# Altium schematic symbol library ST.SchLib: 5 symbols
Pins are listed as number, name and electrical type; pins without a type are passive.

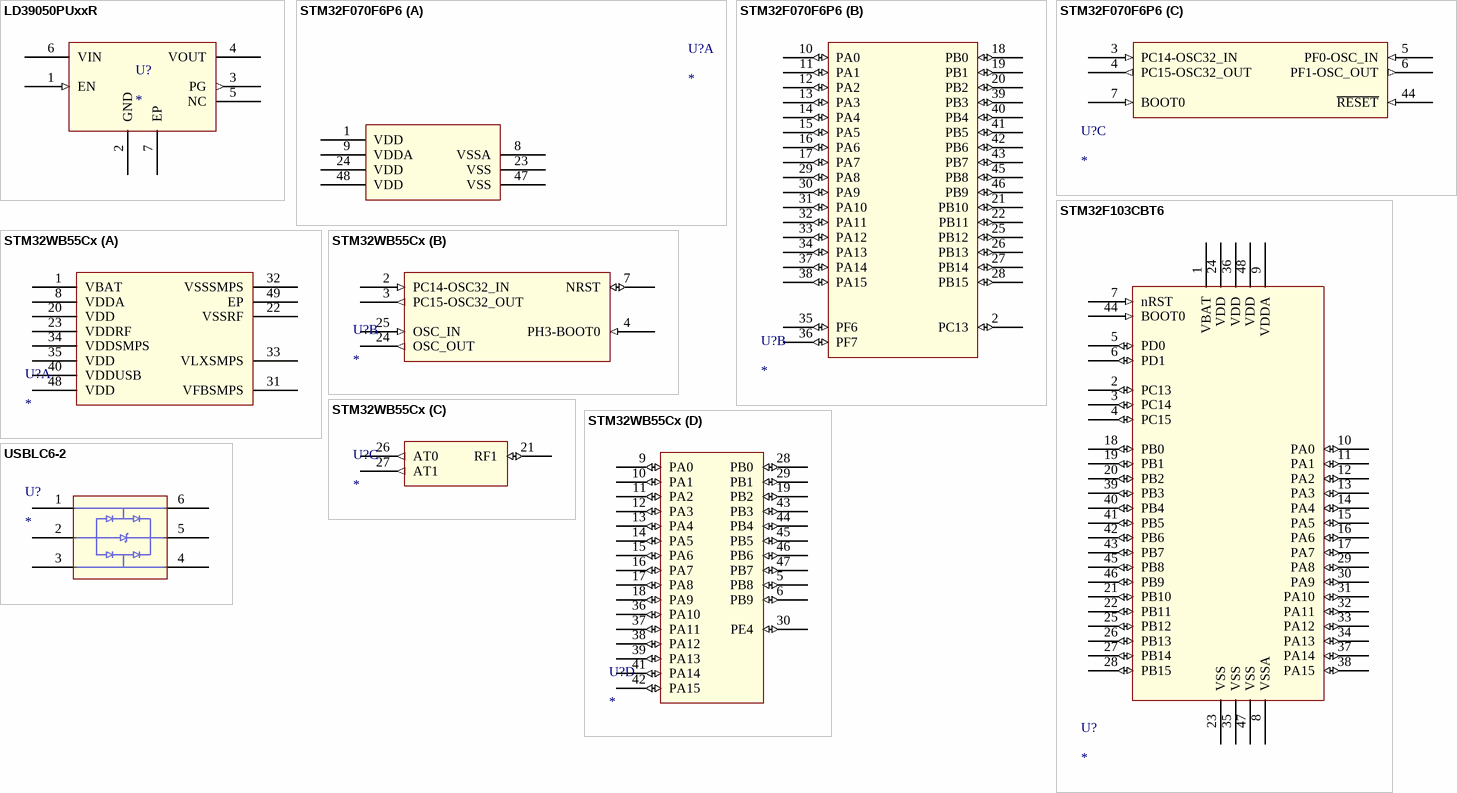
[diagram p0: symbols LD39050PUxxR to USBLC6-2]

## LD39050PUxxR
designator U?
500 mA low quiescent current and low noise voltage regulator
footprint SON6P95S300X300EP237x149 (SON, 6-Leads, Body 3.00x3.00mm, Pitch 0.95mm, Thermal Pad 2.37x1.49mm, IPC Medium Density)
pins: 1 EN (in), 2 GND (power), 3 PG (out), 4 VOUT (power), 5 NC, 6 VIN (power), 7 EP (power)

## STM32F070F6P6
designator U?
Value-line Arm®-based 32-bit MCU with up to 256 KB Flash, timers,ADC, communication interfaces, 2.4-3.6 V operation
footprint LQFP48P50S700X700X160 (TSQFP, 48-Leads, Body 7.00x7.00mm, Pitch 0.50mm, IPC Medium Density)
part A pins: 1 VDD (power), 8 VSSA (power), 9 VDDA (power), 23 VSS (power), 24 VDD (power), 47 VSS (power), 48 VDD (power)
part B pins: 2 PC13 (io), 10 PA0 (io), 11 PA1 (io), 12 PA2 (io), 13 PA3 (io), 14 PA4 (io), 15 PA5 (io), 16 PA6 (io), 17 PA7 (io), 18 PB0 (io), 19 PB1 (io), 20 PB2 (io), 21 PB10 (io), 22 PB11 (io), 25 PB12 (io), 26 PB13 (io), 27 PB14 (io), 28 PB15 (io), 29 PA8 (io), 30 PA9 (io), 31 PA10 (io), 32 PA11 (io), 33 PA12 (io), 34 PA13 (io), 35 PF6 (io), 36 PF7 (io), 37 PA14 (io), 38 PA15 (io), 39 PB3 (io), 40 PB4 (io), 41 PB5 (io), 42 PB6 (io), 43 PB7 (io), 45 PB8 (io), 46 PB9 (io)
part C pins: 3 PC14-OSC32_IN (in), 4 PC15-OSC32_OUT (out), 5 PF0-OSC_IN (in), 6 PF1-OSC_OUT (out), 7 BOOT0 (in), 44 ~{RESET} (in)

## STM32F103CBT6
designator U?
Medium-density performance line ARM®-based 32-bit MCU with 64 or 128 KB Flash, USB, CAN, 7 timers, 2 ADCs, 9 com. interfaces
footprint LQFP48P50S700X700X160 (TSQFP, 48-Leads, Body 7.00x7.00mm, Pitch 0.50mm, IPC Medium Density)
pins: 1 VBAT (power), 2 PC13 (io), 3 PC14 (io), 4 PC15 (io), 5 PD0 (io), 6 PD1 (io), 7 nRST (in), 8 VSSA (power), 9 VDDA (power), 10 PA0 (io), 11 PA1 (io), 12 PA2 (io), 13 PA3 (io), 14 PA4 (io), 15 PA5 (io), 16 PA6 (io), 17 PA7 (io), 18 PB0 (io), 19 PB1 (io), 20 PB2 (io), 21 PB10 (io), 22 PB11 (io), 23 VSS (power), 24 VDD (power), 25 PB12 (io), 26 PB13 (io), 27 PB14 (io), 28 PB15 (io), 29 PA8 (io), 30 PA9 (io), 31 PA10 (io), 32 PA11 (io), 33 PA12 (io), 34 PA13 (io), 35 VSS (power), 36 VDD (power), 37 PA14 (io), 38 PA15 (io), 39 PB3 (io), 40 PB4 (io), 41 PB5 (io), 42 PB6 (io), 43 PB7 (io), 44 BOOT0 (in), 45 PB8 (io), 46 PB9 (io), 47 VSS (power), 48 VDD (power)

## STM32WB55Cx
designator U?
Multiprotocol wireless 32-bit MCU Arm®-based Cortex®-M4 with FPU, Bluetooth® 5 and 802.15.4 radio solution
footprint QFN48P50S700x700EP560x560 (QFN, 48-Leads, Body 7.00x7.00mm, Pitch 0.50mm, Thermal Pad 5.60x5.60mm, IPC Medium Density)
part A pins: 1 VBAT (power), 8 VDDA (power), 20 VDD (power), 22 VSSRF (power), 23 VDDRF (power), 31 VFBSMPS (power), 32 VSSSMPS (power), 33 VLXSMPS (power), 34 VDDSMPS (power), 35 VDD (power), 40 VDDUSB (power), 48 VDD (power), 49 EP (power)
part B pins: 2 PC14-OSC32_IN (in), 3 PC15-OSC32_OUT (out), 4 PH3-BOOT0 (in), 7 NRST (io), 24 OSC_OUT (out), 25 OSC_IN (in)
part C pins: 21 RF1 (io), 26 AT0 (out), 27 AT1 (out)
part D pins: 5 PB8 (io), 6 PB9 (io), 9 PA0 (io), 10 PA1 (io), 11 PA2 (io), 12 PA3 (io), 13 PA4 (io), 14 PA5 (io), 15 PA6 (io), 16 PA7 (io), 17 PA8 (io), 18 PA9 (io), 19 PB2 (io), 28 PB0 (io), 29 PB1 (io), 30 PE4 (io), 36 PA10 (io), 37 PA11 (io), 38 PA12 (io), 39 PA13 (io), 41 PA14 (io), 42 PA15 (io), 43 PB3 (io), 44 PB4 (io), 45 PB5 (io), 46 PB6 (io), 47 PB7 (io)

## USBLC6-2
designator U?
Very low capacitance ESD protection
footprint SOT23-6P95R280X90 (SOT23, 6-Leads, Body 2.93x2.80mm, Pitch 0.95mm, IPC Medium Density)
pins: 1 5, 2 6 (power), 3 7, 4 8, 5 9 (power), 6 10